# Altium footprint library 2.09-TSOC封装.PcbLib: 1 footprints
Each footprint in its own frame and in the unit in brackets; x right, y up, seen from the top. Pads: shape width x height; smd on the part's side, far side on the other; paste and mask are expansions set on the pad; w line width, h text height; cw(c..) or ccw(c..) is an arc to the next point about the centre after c.
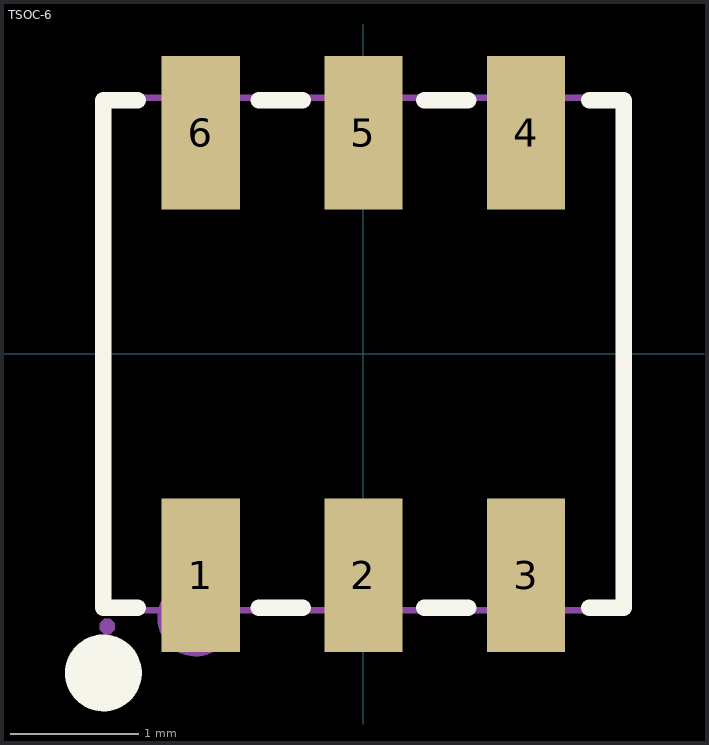
[diagram p0: the footprint, top view; thin cyan lines are the x and y axes]

## TSOC-6 [mil]
pads (6):
  rect 24x47.24 smd: 1(-50,-68) 2(0,-68) 3(50,-68) 4(50,68) 5(0,68) 6(-50,68)
Top Overlay:
  circle w11.81: c-79.92,-98.03 r5.91
  lines w5.08: -69.44,-78 -80,-78 -80,78 -69.44,78 ; -32.16,-78 -18.64,-78 ; -32.16,78 -18.64,78 ; 18.64,-78 32.16,-78 ; 18.64,78 32.16,78 ; 69.44,-78 80,-78 80,78 69.44,78
Mechanical 6:
  circle w11.81: c-51.57,-81.1 r5.91
Mechanical 15:
  region: -57.87,-52.25 -42.13,-52.25 -42.13,-83.75 -57.87,-83.75
  region: -7.87,-52.25 7.87,-52.25 7.87,-83.75 -7.87,-83.75
  region: 42.13,-52.25 57.87,-52.25 57.87,-83.75 42.13,-83.75
  region: 42.13,83.75 57.87,83.75 57.87,52.25 42.13,52.25
  region: -7.87,83.75 7.87,83.75 7.87,52.25 -7.87,52.25
  region: -57.87,83.75 -42.13,83.75 -42.13,52.25 -57.87,52.25
  region: -76.38,-83.75 -76.38,-84.73 -77.76,-86.11 -79.72,-86.11 -81.1,-84.73 -81.1,-83.75 -81.1,-82.77 -79.72,-81.39 -77.76,-81.39 -76.38,-82.77 -76.38,-83.75
  lines w2: -78.74,-78.74 78.74,-78.74 78.74,78.74 -78.74,78.74 -78.74,-78.74
3D body "TSOC-6.STEP": height 47.28, standoff 0, extent -78.74,-84.65 78.74,84.65